# Altium footprint library SAMTEC_FTSH-105-01-F-DV-P-TR.PcbLib: 1 footprints
Each footprint in its own frame and in the unit in brackets; x right, y up, seen from the top. Pads: shape width x height; smd on the part's side, far side on the other; paste and mask are expansions set on the pad; w line width, h text height; cw(c..) or ccw(c..) is an arc to the next point about the centre after c.
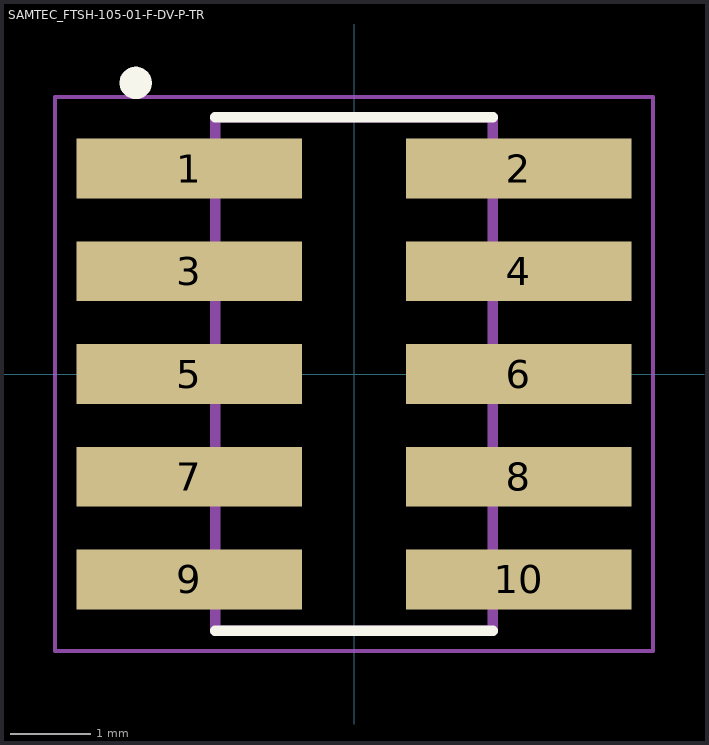
[diagram p0: the footprint, top view; thin cyan lines are the x and y axes]

## SAMTEC_FTSH-105-01-F-DV-P-TR [mm]
pads (10):
  rect 2.79x0.74 smd: 1(-2.035,2.54) 2(2.035,2.54) 3(-2.035,1.27) 4(2.035,1.27) 5(-2.035,0) 6(2.035,0) 7(-2.035,-1.27) 8(2.035,-1.27) 9(-2.035,-2.54) 10(2.035,-2.54)
Top Overlay:
  circle w0.2: c-2.7,3.6 r0.1
  lines w0.127: -1.715,-3.175 1.715,-3.175 ; -1.715,3.175 1.715,3.175
Mechanical 13:
  lines w0.127: -1.715,-3.175 -1.715,3.175 1.715,3.175 1.715,-3.175 -1.715,-3.175
Mechanical 15:
  lines w0.05: -3.7,-3.425 -3.7,3.425 3.7,3.425 3.7,-3.425 -3.7,-3.425
3D body "FTSH-105-01-F-DV-K-TR--3DModel-STEP-56544.STEP": height 5.71, standoff -0.41, extent -2.921,-3.175 2.921,3.175